# EAGLE library part EFM32TG222F (library MCUs)
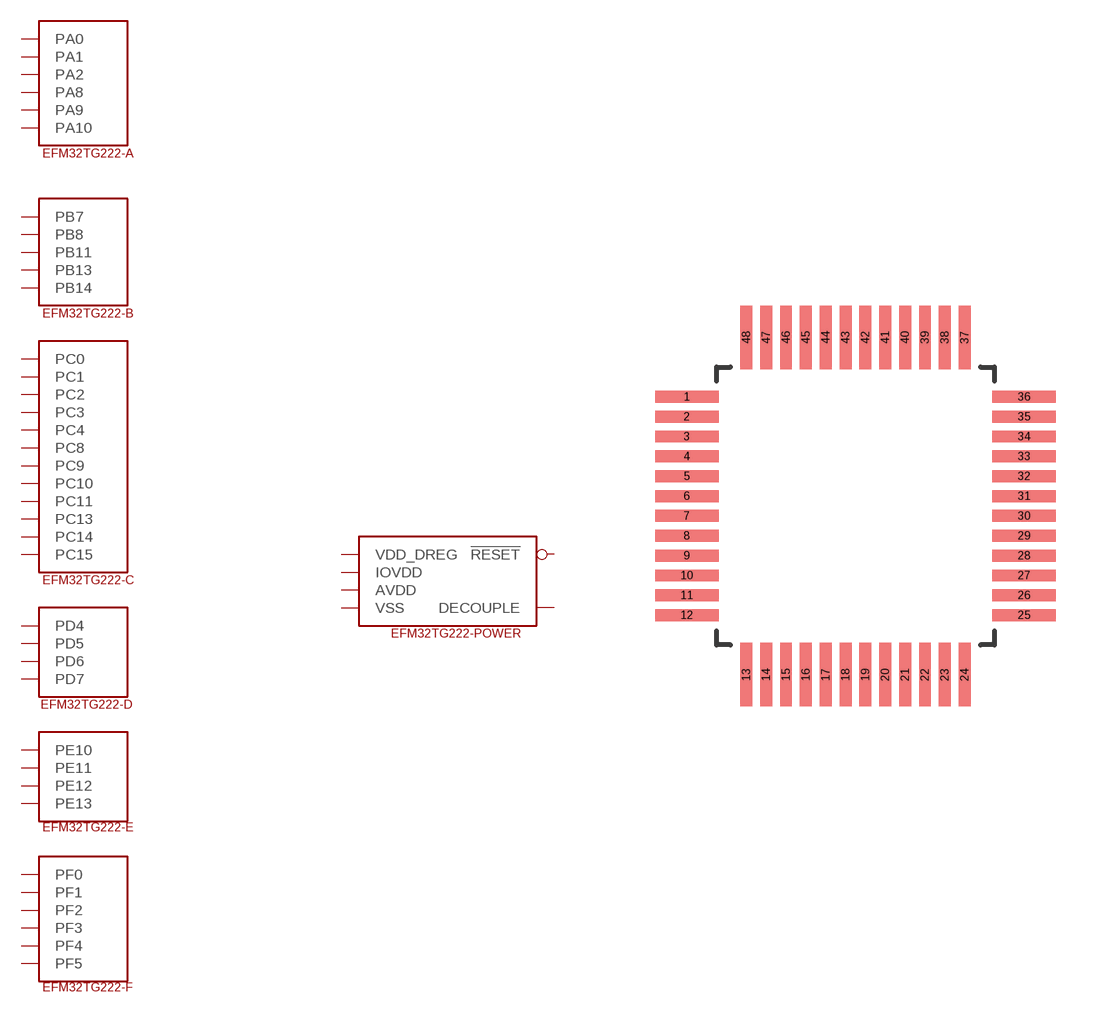
[diagram p0: symbol with the pads of QFP48; footprint QFP48]

Designator prefix IC; gates G$1=EFM32TG222F-A G$2=EFM32TG222F-B G$3=EFM32TG222F-C G$4=EFM32TG222F-D G$5=EFM32TG222F-E G$6=EFM32TG222F-F G$7=EFM32TG222F-POWER

## EFM32TG222F (MN: Silabs)  [QFP48]
1  G$1:PA0
2  G$1:PA1
3  G$1:PA2
4  G$7:IOVDD
5  G$7:VSS
6  G$3:PC0
7  G$3:PC1
8  G$3:PC2
9  G$3:PC3
10  G$3:PC4
11  G$2:PB7
12  G$2:PB8
13  G$1:PA8
14  G$1:PA9
15  G$1:PA10
16  G$7:!RESET!
17  G$2:PB11
18  G$7:VSS
19  G$7:AVDD
20  G$2:PB13
21  G$2:PB14
22  G$7:IOVDD
23  G$7:AVDD
24  G$4:PD4
25  G$4:PD5
26  G$4:PD6
27  G$4:PD7
28  G$7:VDD_DREG
29  G$7:DECOUPLE
30  G$3:PC8
31  G$3:PC9
32  G$3:PC10
33  G$3:PC11
34  G$3:PC13
35  G$3:PC14
36  G$3:PC15
37  G$6:PF0
38  G$6:PF1
39  G$6:PF2
40  G$6:PF3
41  G$6:PF4
42  G$6:PF5
43  G$7:IOVDD
44  G$7:VSS
45  G$5:PE10
46  G$5:PE11
47  G$5:PE12
48  G$5:PE13

## Footprint QFP48 (pad centres in mm)
smd 1.6 x 0.3: 1 -4.25,2.75; 2 -4.25,2.25; 3 -4.25,1.75; 4 -4.25,1.25; 5 -4.25,0.75; 6 -4.25,0.25; 7 -4.25,-0.25; 8 -4.25,-0.75; 9 -4.25,-1.25; 10 -4.25,-1.75; 11 -4.25,-2.25; 12 -4.25,-2.75; 25 4.25,-2.75; 26 4.25,-2.25; 27 4.25,-1.75; 28 4.25,-1.25; 29 4.25,-0.75; 30 4.25,-0.25; 31 4.25,0.25; 32 4.25,0.75; 33 4.25,1.25; 34 4.25,1.75; 35 4.25,2.25; 36 4.25,2.75
smd 0.3 x 1.6: 13 -2.75,-4.25; 14 -2.25,-4.25; 15 -1.75,-4.25; 16 -1.25,-4.25; 17 -0.75,-4.25; 18 -0.25,-4.25; 19 0.25,-4.25; 20 0.75,-4.25; 21 1.25,-4.25; 22 1.75,-4.25; 23 2.25,-4.25; 24 2.75,-4.25; 37 2.75,4.25; 38 2.25,4.25; 39 1.75,4.25; 40 1.25,4.25; 41 0.75,4.25; 42 0.25,4.25; 43 -0.25,4.25; 44 -0.75,4.25; 45 -1.25,4.25; 46 -1.75,4.25; 47 -2.25,4.25; 48 -2.75,4.25